# Altium schematic symbol library lib_altera.SchLib: 1 symbol
Pins are listed as number, name and electrical type; pins without a type are passive.

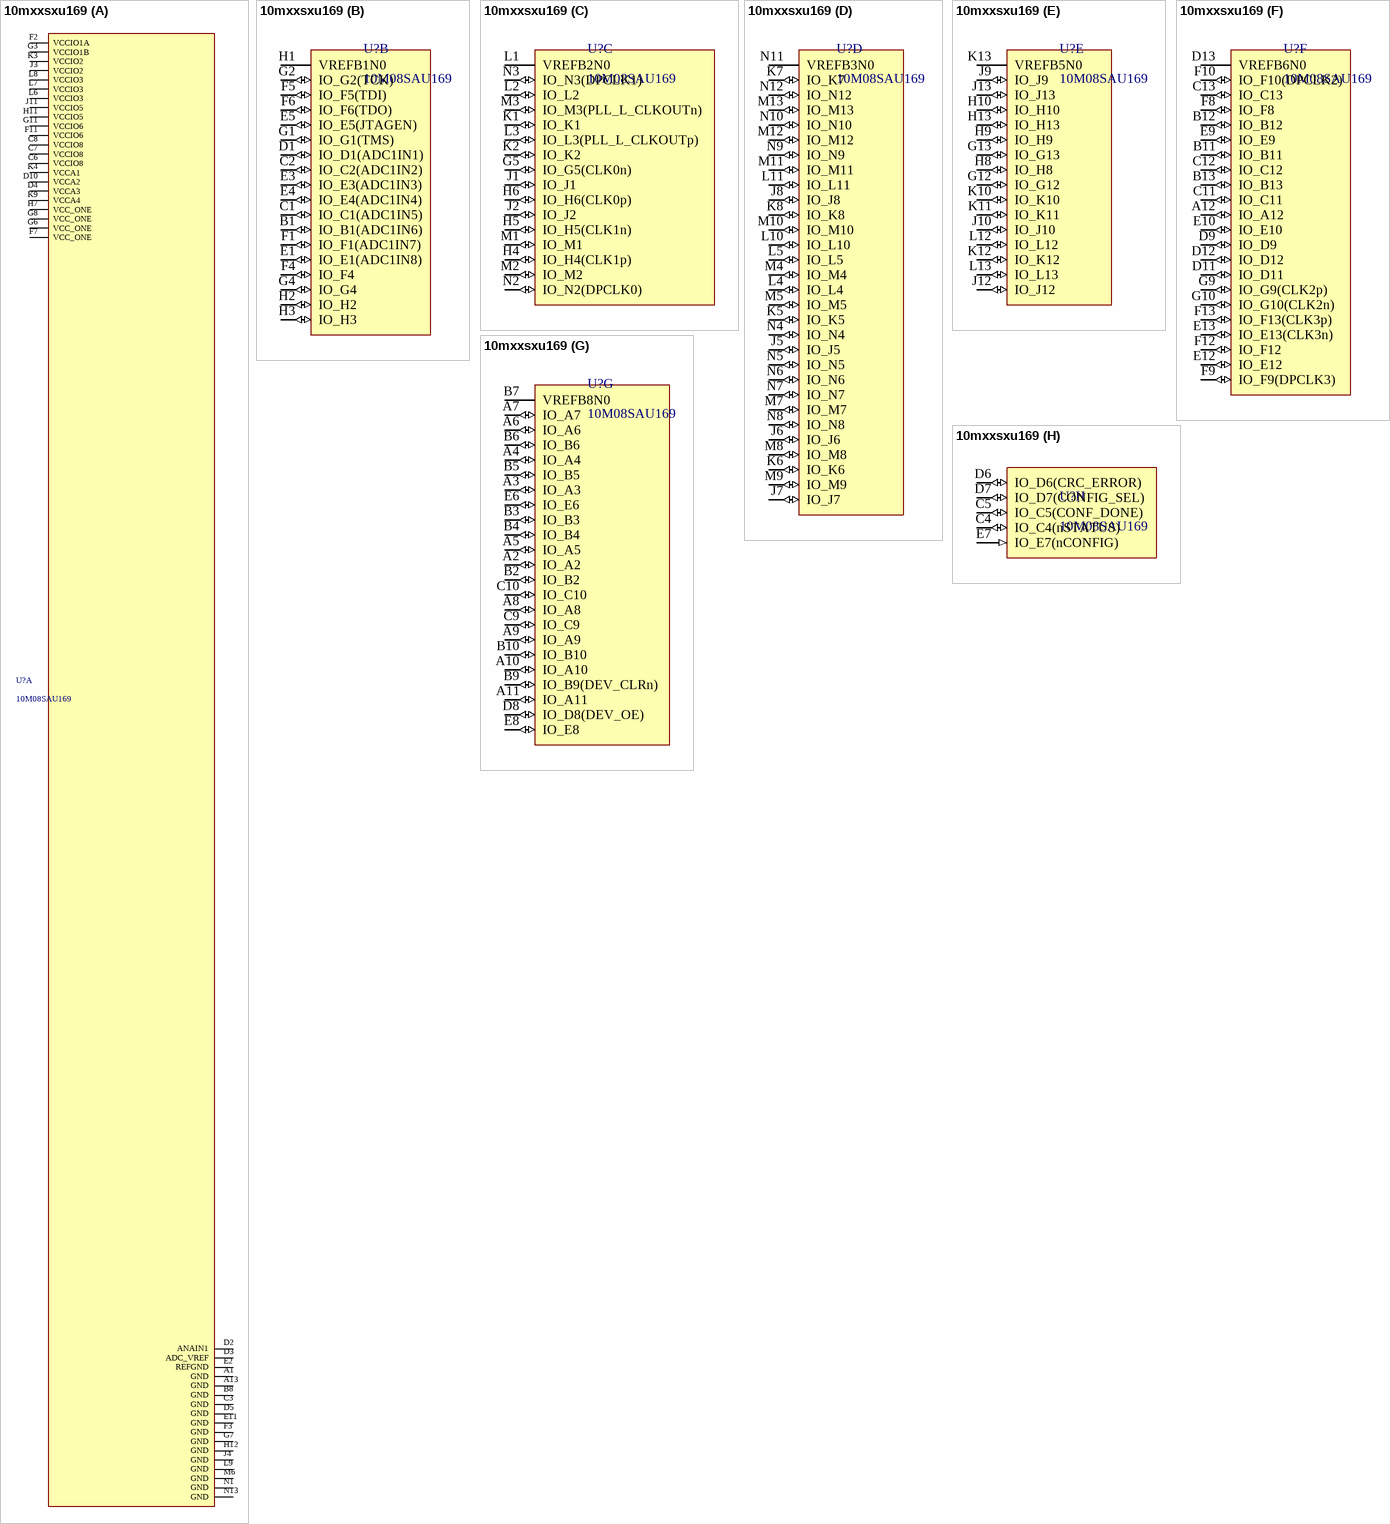
[diagram p0: symbol 10mxxsxu169]

## 10mxxsxu169
designator U?, comment 10M08SAU169
MAX10 FPGA 10M08SAU169
footprint BGA169C80P13X13_1100X1100X155 (BGA, 169-Leads, Body 11.00x11.00mmx1.55mm, Pitch 0.80mm)
part A pins: A1 GND (power), A13 GND (power), B8 GND (power), C3 GND (power), C6 VCCIO8 (power), C7 VCCIO8 (power), C8 VCCIO8 (power), D2 ANAIN1 (power), D3 ADC_VREF (power), D4 VCCA3 (power), D5 GND (power), D10 VCCA2 (power), E2 REFGND (power), E11 GND (power), F2 VCCIO1A (power), F3 GND (power), F7 VCC_ONE (power), F11 VCCIO6 (power), G3 VCCIO1B (power), G6 VCC_ONE (power), G7 GND (power), G8 VCC_ONE (power), G11 VCCIO6 (power), H7 VCC_ONE (power), H11 VCCIO5 (power), H12 GND (power), J3 VCCIO2 (power), J4 GND (power), J11 VCCIO5 (power), K3 VCCIO2 (power), K4 VCCA1 (power), K9 VCCA4 (power), L6 VCCIO3 (power), L7 VCCIO3 (power), L8 VCCIO3 (power), L9 GND (power), M6 GND (power), N1 GND (power), N13 GND (power)
part B pins: B1 IO_B1(ADC1IN6) (io), C1 IO_C1(ADC1IN5) (io), C2 IO_C2(ADC1IN2) (io), D1 IO_D1(ADC1IN1) (io), E1 IO_E1(ADC1IN8) (io), E3 IO_E3(ADC1IN3) (io), E4 IO_E4(ADC1IN4) (io), E5 IO_E5(JTAGEN) (io), F1 IO_F1(ADC1IN7) (io), F4 IO_F4 (io), F5 IO_F5(TDI) (io), F6 IO_F6(TDO) (io), G1 IO_G1(TMS) (io), G2 IO_G2(TCK) (io), G4 IO_G4 (io), H1 VREFB1N0 (power), H2 IO_H2 (io), H3 IO_H3 (io)
part C pins: G5 IO_G5(CLK0n) (io), H4 IO_H4(CLK1p) (io), H5 IO_H5(CLK1n) (io), H6 IO_H6(CLK0p) (io), J1 IO_J1 (io), J2 IO_J2 (io), K1 IO_K1 (io), K2 IO_K2 (io), L1 VREFB2N0 (power), L2 IO_L2 (io), L3 IO_L3(PLL_L_CLKOUTp) (io), M1 IO_M1 (io), M2 IO_M2 (io), M3 IO_M3(PLL_L_CLKOUTn) (io), N2 IO_N2(DPCLK0) (io), N3 IO_N3(DPCLK1) (io)
part D pins: J5 IO_J5 (io), J6 IO_J6 (io), J7 IO_J7 (io), J8 IO_J8 (io), K5 IO_K5 (io), K6 IO_K6 (io), K7 IO_K7 (io), K8 IO_K8 (io), L4 IO_L4 (io), L5 IO_L5 (io), L10 IO_L10 (io), L11 IO_L11 (io), M4 IO_M4 (io), M5 IO_M5 (io), M7 IO_M7 (io), M8 IO_M8 (io), M9 IO_M9 (io), M10 IO_M10 (io), M11 IO_M11 (io), M12 IO_M12 (io), M13 IO_M13 (io), N4 IO_N4 (io), N5 IO_N5 (io), N6 IO_N6 (io), N7 IO_N7 (io), N8 IO_N8 (io), N9 IO_N9 (io), N10 IO_N10 (io), N11 VREFB3N0 (power), N12 IO_N12 (io)
part E pins: G12 IO_G12 (io), G13 IO_G13 (io), H8 IO_H8 (io), H9 IO_H9 (io), H10 IO_H10 (io), H13 IO_H13 (io), J9 IO_J9 (io), J10 IO_J10 (io), J12 IO_J12 (io), J13 IO_J13 (io), K10 IO_K10 (io), K11 IO_K11 (io), K12 IO_K12 (io), K13 VREFB5N0 (power), L12 IO_L12 (io), L13 IO_L13 (io)
part F pins: A12 IO_A12 (io), B11 IO_B11 (io), B12 IO_B12 (io), B13 IO_B13 (io), C11 IO_C11 (io), C12 IO_C12 (io), C13 IO_C13 (io), D9 IO_D9 (io), D11 IO_D11 (io), D12 IO_D12 (io), D13 VREFB6N0 (power), E9 IO_E9 (io), E10 IO_E10 (io), E12 IO_E12 (io), E13 IO_E13(CLK3n) (io), F8 IO_F8 (io), F9 IO_F9(DPCLK3) (io), F10 IO_F10(DPCLK2) (io), F12 IO_F12 (io), F13 IO_F13(CLK3p) (io), G9 IO_G9(CLK2p) (io), G10 IO_G10(CLK2n) (io)
part G pins: A2 IO_A2 (io), A3 IO_A3 (io), A4 IO_A4 (io), A5 IO_A5 (io), A6 IO_A6 (io), A7 IO_A7 (io), A8 IO_A8 (io), A9 IO_A9 (io), A10 IO_A10 (io), A11 IO_A11 (io), B2 IO_B2 (io), B3 IO_B3 (io), B4 IO_B4 (io), B5 IO_B5 (io), B6 IO_B6 (io), B7 VREFB8N0 (power), B9 IO_B9(DEV_CLRn) (io), B10 IO_B10 (io), C9 IO_C9 (io), C10 IO_C10 (io), D8 IO_D8(DEV_OE) (io), E6 IO_E6 (io), E8 IO_E8 (io)
part H pins: C4 IO_C4(nSTATUS) (io), C5 IO_C5(CONF_DONE) (io), D6 IO_D6(CRC_ERROR) (io), D7 IO_D7(CONFIG_SEL) (io), E7 IO_E7(nCONFIG) (in)